# EAGLE library part LC4256ZE_XXMN144 (library lattice_ispmach4000ze)
ispMACH 4256ZE csBGA144 Lattice Semiconductor Corporation - ispMACH 4000ZE Ultra Low Power, Low Cost CPLD Family Generated using Lattice BSDL models: http://www.latticesemi.com/dynamic/index.cfm?fuseaction=view_documents&document_type=36&sloc=01-01-02-01&source=sidebar
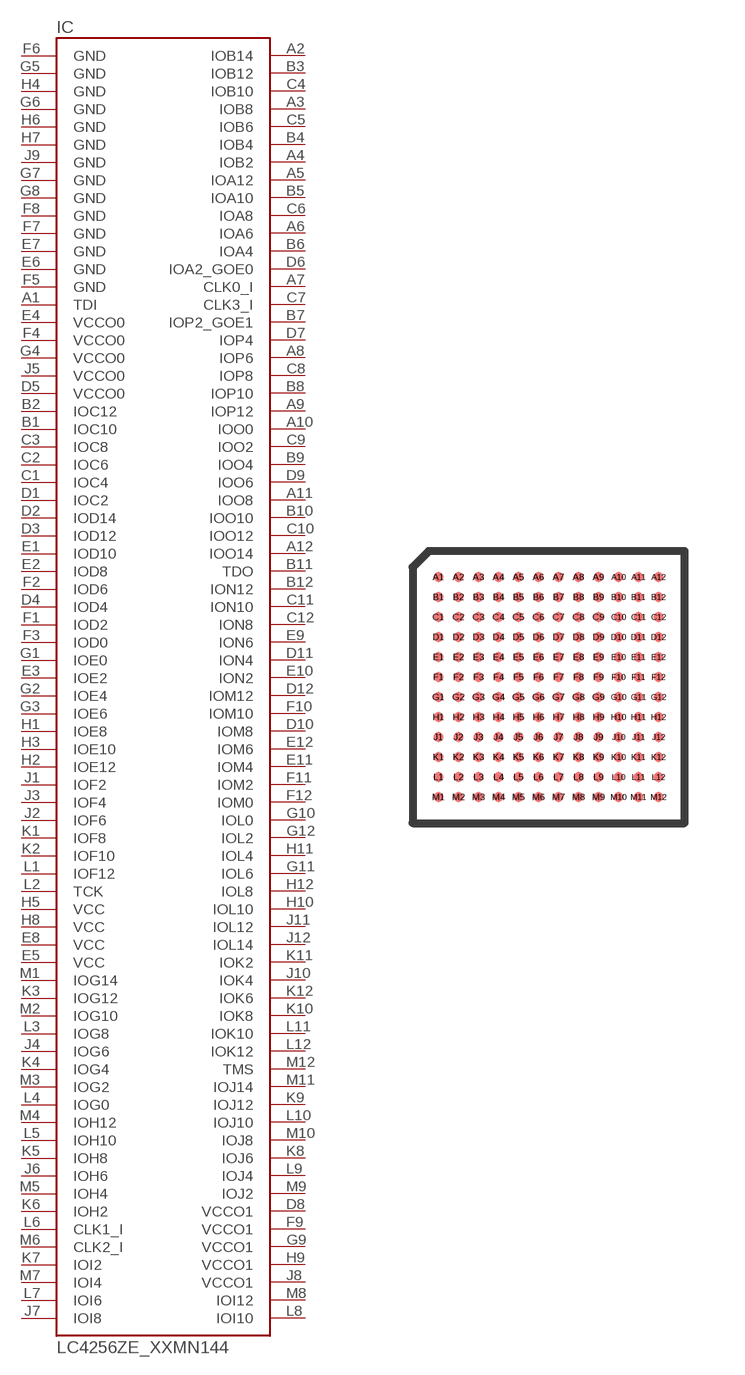
[diagram p11: symbol with the pads of CSBGA144; footprint CSBGA144]

Designator prefix IC

## LC4256ZE_XXMN144  [CSBGA144]
A1  TDI  in
A2  IOB14
A3  IOB8
A4  IOB2
A5  IOA12
A6  IOA6
A7  CLK0_I  in
A8  IOP6
A9  IOP12
A10  IOO0
A11  IOO8
A12  IOO14
B1  IOC10
B2  IOC12
B3  IOB12
B4  IOB4
B5  IOA10
B6  IOA4
B7  IOP2_GOE1
B8  IOP10
B9  IOO4
B10  IOO10
B11  TDO  out
B12  ION12
C1  IOC4
C2  IOC6
C3  IOC8
C4  IOB10
C5  IOB6
C6  IOA8
C7  CLK3_I  in
C8  IOP8
C9  IOO2
C10  IOO12
C11  ION10
C12  ION8
D1  IOC2
D2  IOD14
D3  IOD12
D4  IOD4
D5  VCCO0  pwr
D6  IOA2_GOE0
D7  IOP4
D8  VCCO1  pwr
D9  IOO6
D10  IOM8
D11  ION4
D12  IOM12
E1  IOD10
E2  IOD8
E3  IOE2
E4  VCCO0  pwr
E5  VCC  pwr
E6  GND  pwr
E7  GND  pwr
E8  VCC  pwr
E9  ION6
E10  ION2
E11  IOM4
E12  IOM6
F1  IOD2
F2  IOD6
F3  IOD0
F4  VCCO0  pwr
F5  GND  pwr
F6  GND  pwr
F7  GND  pwr
F8  GND  pwr
F9  VCCO1  pwr
F10  IOM10
F11  IOM2
F12  IOM0
G1  IOE0
G2  IOE4
G3  IOE6
G4  VCCO0  pwr
G5  GND  pwr
G6  GND  pwr
G7  GND  pwr
G8  GND  pwr
G9  VCCO1  pwr
G10  IOL0
G11  IOL6
G12  IOL2
H1  IOE8
H2  IOE12
H3  IOE10
H4  GND  pwr
H5  VCC  pwr
H6  GND  pwr
H7  GND  pwr
H8  VCC  pwr
H9  VCCO1  pwr
H10  IOL10
H11  IOL4
H12  IOL8
J1  IOF2
J2  IOF6
J3  IOF4
J4  IOG6
J5  VCCO0  pwr
J6  IOH6
J7  IOI8
J8  VCCO1  pwr
J9  GND  pwr
J10  IOK4
J11  IOL12
J12  IOL14
K1  IOF8
K2  IOF10
K3  IOG12
K4  IOG4
K5  IOH8
K6  IOH2
K7  IOI2
K8  IOJ6
K9  IOJ12
K10  IOK8
K11  IOK2
K12  IOK6
L1  IOF12
L2  TCK  in
L3  IOG8
L4  IOG0
L5  IOH10
L6  CLK1_I  in
L7  IOI6
L8  IOI10
L9  IOJ4
L10  IOJ10
L11  IOK10
L12  IOK12
M1  IOG14
M2  IOG10
M3  IOG2
M4  IOH12
M5  IOH4
M6  CLK2_I  in
M7  IOI4
M8  IOI12
M9  IOJ2
M10  IOJ8
M11  IOJ14
M12  TMS  in

## Footprint CSBGA144 (pad centres in mm)
csBGA - 144 http://www.latticesemi.com/lit/docs/package/pkg.pdf
smd 0.25 x 0.25: A1 -2.75,2.75; A2 -2.25,2.75; A3 -1.75,2.75; A4 -1.25,2.75; A5 -0.75,2.75; A6 -0.25,2.75; A7 0.25,2.75; A8 0.75,2.75; A9 1.25,2.75; A10 1.75,2.75; A11 2.25,2.75; A12 2.75,2.75; B1 -2.75,2.25; B2 -2.25,2.25; B3 -1.75,2.25; B4 -1.25,2.25; B5 -0.75,2.25; B6 -0.25,2.25; B7 0.25,2.25; B8 0.75,2.25; B9 1.25,2.25; B10 1.75,2.25; B11 2.25,2.25; B12 2.75,2.25; C1 -2.75,1.75; C2 -2.25,1.75; C3 -1.75,1.75; C4 -1.25,1.75; C5 -0.75,1.75; C6 -0.25,1.75; C7 0.25,1.75; C8 0.75,1.75; C9 1.25,1.75; C10 1.75,1.75; C11 2.25,1.75; C12 2.75,1.75; D1 -2.75,1.25; D2 -2.25,1.25; D3 -1.75,1.25; D4 -1.25,1.25; D5 -0.75,1.25; D6 -0.25,1.25; D7 0.25,1.25; D8 0.75,1.25; D9 1.25,1.25; D10 1.75,1.25; D11 2.25,1.25; D12 2.75,1.25; E1 -2.75,0.75; E2 -2.25,0.75; E3 -1.75,0.75; E4 -1.25,0.75; E5 -0.75,0.75; E6 -0.25,0.75; E7 0.25,0.75; E8 0.75,0.75; E9 1.25,0.75; E10 1.75,0.75; E11 2.25,0.75; E12 2.75,0.75; F1 -2.75,0.25; F2 -2.25,0.25; F3 -1.75,0.25; F4 -1.25,0.25; F5 -0.75,0.25; F6 -0.25,0.25; F7 0.25,0.25; F8 0.75,0.25; F9 1.25,0.25; F10 1.75,0.25; F11 2.25,0.25; F12 2.75,0.25; G1 -2.75,-0.25; G2 -2.25,-0.25; G3 -1.75,-0.25; G4 -1.25,-0.25; G5 -0.75,-0.25; G6 -0.25,-0.25; G7 0.25,-0.25; G8 0.75,-0.25; G9 1.25,-0.25; G10 1.75,-0.25; G11 2.25,-0.25; G12 2.75,-0.25; H1 -2.75,-0.75; H2 -2.25,-0.75; H3 -1.75,-0.75; H4 -1.25,-0.75; H5 -0.75,-0.75; H6 -0.25,-0.75; H7 0.25,-0.75; H8 0.75,-0.75; H9 1.25,-0.75; H10 1.75,-0.75; H11 2.25,-0.75; H12 2.75,-0.75; J1 -2.75,-1.25; J2 -2.25,-1.25; J3 -1.75,-1.25; J4 -1.25,-1.25; J5 -0.75,-1.25; J6 -0.25,-1.25; J7 0.25,-1.25; J8 0.75,-1.25; J9 1.25,-1.25; J10 1.75,-1.25; J11 2.25,-1.25; J12 2.75,-1.25; K1 -2.75,-1.75; K2 -2.25,-1.75; K3 -1.75,-1.75; K4 -1.25,-1.75; K5 -0.75,-1.75; K6 -0.25,-1.75; K7 0.25,-1.75; K8 0.75,-1.75; K9 1.25,-1.75; K10 1.75,-1.75; K11 2.25,-1.75; K12 2.75,-1.75; L1 -2.75,-2.25; L2 -2.25,-2.25; L3 -1.75,-2.25; L4 -1.25,-2.25; L5 -0.75,-2.25; L6 -0.25,-2.25; L7 0.25,-2.25; L8 0.75,-2.25; L9 1.25,-2.25; L10 1.75,-2.25; L11 2.25,-2.25; L12 2.75,-2.25; M1 -2.75,-2.75; M2 -2.25,-2.75; M3 -1.75,-2.75; M4 -1.25,-2.75; M5 -0.75,-2.75; M6 -0.25,-2.75; M7 0.25,-2.75; M8 0.75,-2.75; M9 1.25,-2.75; M10 1.75,-2.75; M11 2.25,-2.75; M12 2.75,-2.75